# Altium schematic symbol library Schlib1.SchLib: 11 symbols
Pins are listed as number, name and electrical type; pins without a type are passive.

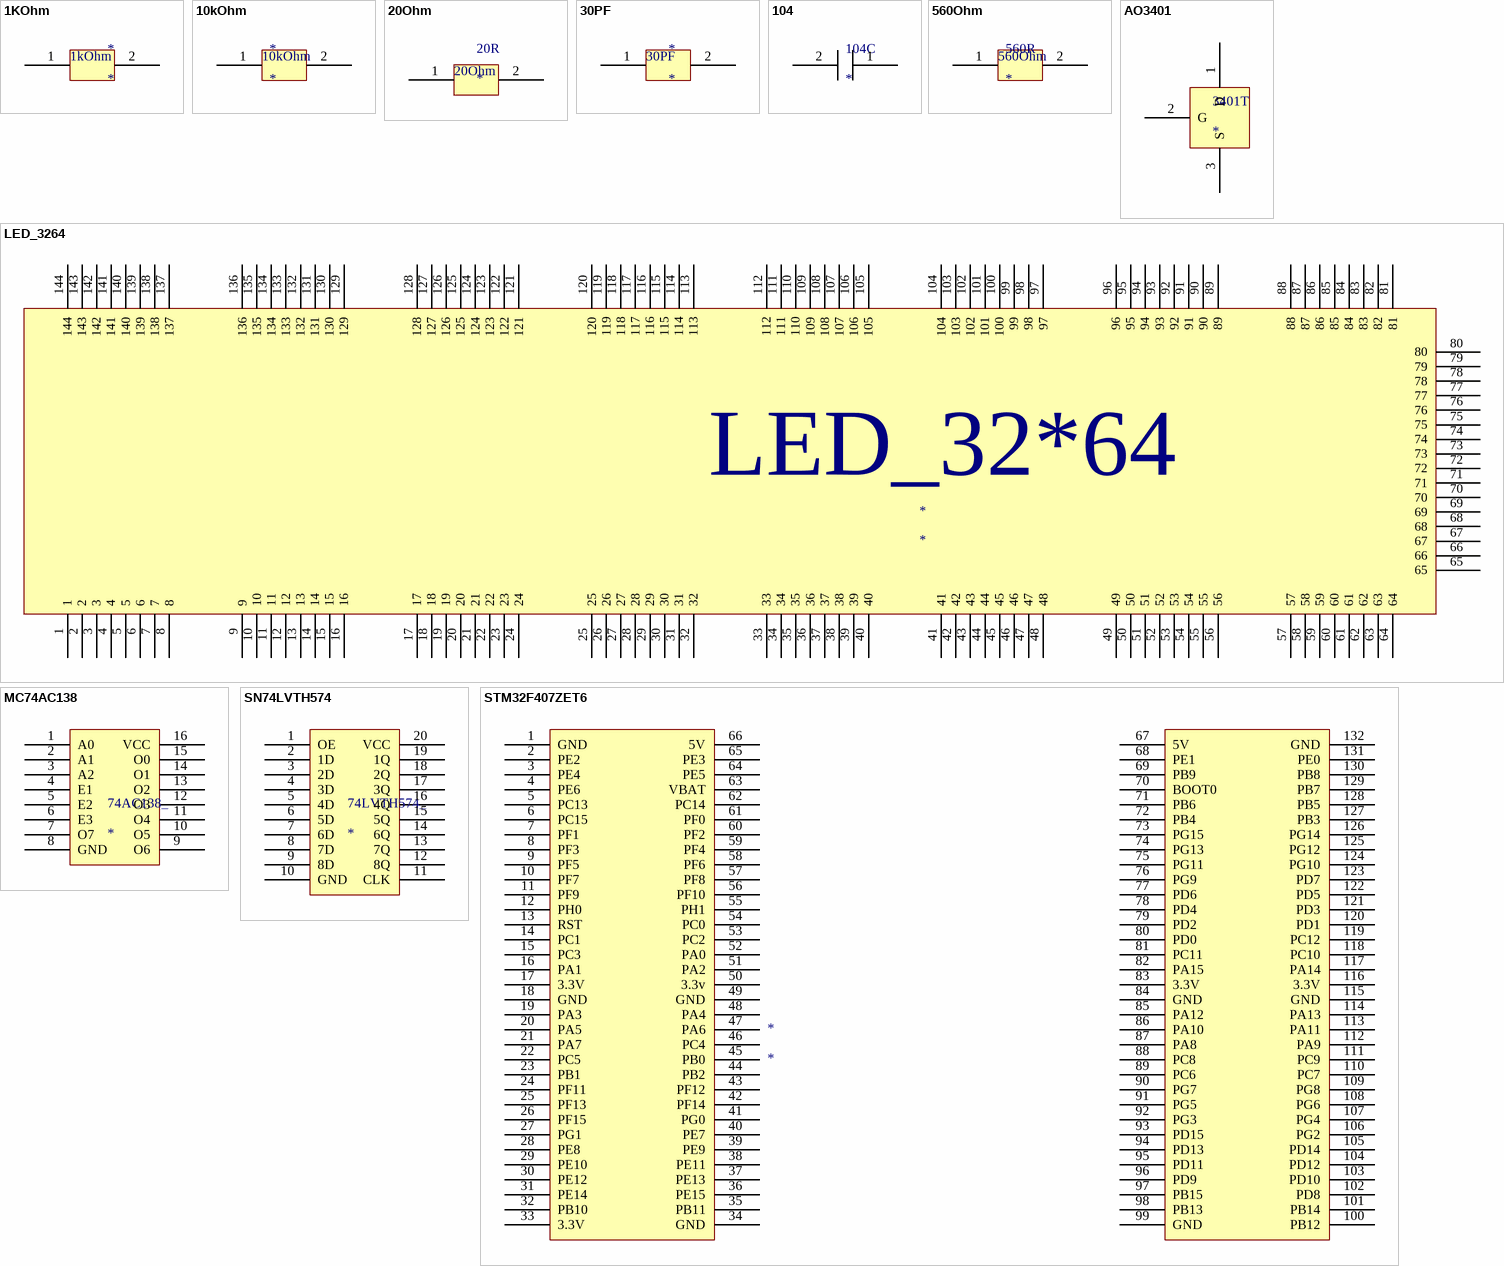
[diagram p0: symbols 1KOhm to STM32F407ZET6]

## 1KOhm
designator *
footprint 104
pins: 1, 2
text: 1kOhm

## 10kOhm
designator *
pins: 1, 2

## 20Ohm
designator 20R
footprint 104
pins: 1, 2

## 30PF
designator *
footprint 104
pins: 1, 2

## 104
designator 104C
footprint 104
pins: 1  , 2  

## 560Ohm
designator 560R
footprint 104
pins: 1, 2

## AO3401
designator 3401T
footprint AO3401
pins: 1 D, 2 G, 3 S

## LED_3264
designator *
footprint LED_3264
pins: 1, 2, 3, 4, 5, 6, 7, 8, 9, 10, 11, 12, 13, 14, 15, 16, 17, 18, 19, 20, 21, 22, 23, 24, 25, 26, 27, 28, 29, 30, 31, 32, 33, 34, 35, 36, 37, 38, 39, 40, 41, 42, 43, 44, 45, 46, 47, 48, 49, 50, 51, 52, 53, 54, 55, 56, 57, 58, 59, 60, 61, 62, 63, 64, 65, 66, 67, 68, 69, 70, 71, 72, 73, 74, 75, 76, 77, 78, 79, 80, 81, 82, 83, 84, 85, 86, 87, 88, 89, 90, 91, 92, 93, 94, 95, 96, 97, 98, 99, 100, 101, 102, 103, 104, 105, 106, 107, 108, 109, 110, 111, 112, 113, 114, 115, 116, 117, 118, 119, 120, 121, 122, 123, 124, 125, 126, 127, 128, 129, 130, 131, 132, 133, 134, 135, 136, 137, 138, 139, 140, 141, 142, 143, 144
text: LED_32*64

## MC74AC138
designator 74AC138_
footprint MC74AC138
pins: 1 A0, 2 A1, 3 A2, 4 E1, 5 E2, 6 E3, 7 O7, 8 GND, 9 O6, 10 O5, 11 O4, 12 O3, 13 O2, 14 O1, 15 O0, 16 VCC

## SN74LVTH574
designator 74LVTH574_
footprint SN74LVTH574
pins: 1 OE, 2 1D, 3 2D, 4 3D, 5 4D, 6 5D, 7 6D, 8 7D, 9 8D, 10 GND, 11 CLK, 12 8Q, 13 7Q, 14 6Q, 15 5Q, 16 4Q, 17 3Q, 18 2Q, 19 1Q, 20 VCC

## STM32F407ZET6
designator *
pins: 1 GND, 2 PE2, 3 PE4, 4 PE6, 5 PC13, 6 PC15, 7 PF1, 8 PF3, 9 PF5, 10 PF7, 11 PF9, 12 PH0, 13 RST, 14 PC1, 15 PC3, 16 PA1, 17 3.3V, 18 GND, 19 PA3, 20 PA5, 21 PA7, 22 PC5, 23 PB1, 24 PF11, 25 PF13, 26 PF15, 27 PG1, 28 PE8, 29 PE10, 30 PE12, 31 PE14, 32 PB10, 33 3.3V, 34 GND, 35 PB11, 36 PE15, 37 PE13, 38 PE11, 39 PE9, 40 PE7, 41 PG0, 42 PF14, 43 PF12, 44 PB2, 45 PB0, 46 PC4, 47 PA6, 48 PA4, 49 GND, 50 3.3v, 51 PA2, 52 PA0, 53 PC2, 54 PC0, 55 PH1, 56 PF10, 57 PF8, 58 PF6, 59 PF4, 60 PF2, 61 PF0, 62 PC14, 63 VBAT, 64 PE5, 65 PE3, 66 5V, 67 5V, 68 PE1, 69 PB9, 70 BOOT0, 71 PB6, 72 PB4, 73 PG15, 74 PG13, 75 PG11, 76 PG9, 77 PD6, 78 PD4, 79 PD2, 80 PD0, 81 PC11, 82 PA15, 83 3.3V, 84 GND, 85 PA12, 86 PA10, 87 PA8, 88 PC8, 89 PC6, 90 PG7, 91 PG5, 92 PG3, 93 PD15, 94 PD13, 95 PD11, 96 PD9, 97 PB15, 98 PB13, 99 GND, 100 PB12, 101 PB14, 102 PD8, 103 PD10, 104 PD12, 105 PD14, 106 PG2, 107 PG4, 108 PG6, 109 PG8, 110 PC7, 111 PC9, 112 PA9, 113 PA11, 114 PA13, 115 GND, 116 3.3V, 117 PA14, 118 PC10, 119 PC12, 120 PD1, 121 PD3, 122 PD5, 123 PD7, 124 PG10, 125 PG12, 126 PG14, 127 PB3, 128 PB5, 129 PB7, 130 PB8, 131 PE0, 132 GND